# Altium footprint library resSmd.PcbLib: 25 footprints (part 2 of 2)
Each footprint in its own frame and in the unit in brackets; x right, y up, seen from the top. Pads: shape width x height; smd on the part's side, far side on the other; paste and mask are expansions set on the pad; w line width, h text height; cw(c..) or ccw(c..) is an arc to the next point about the centre after c.
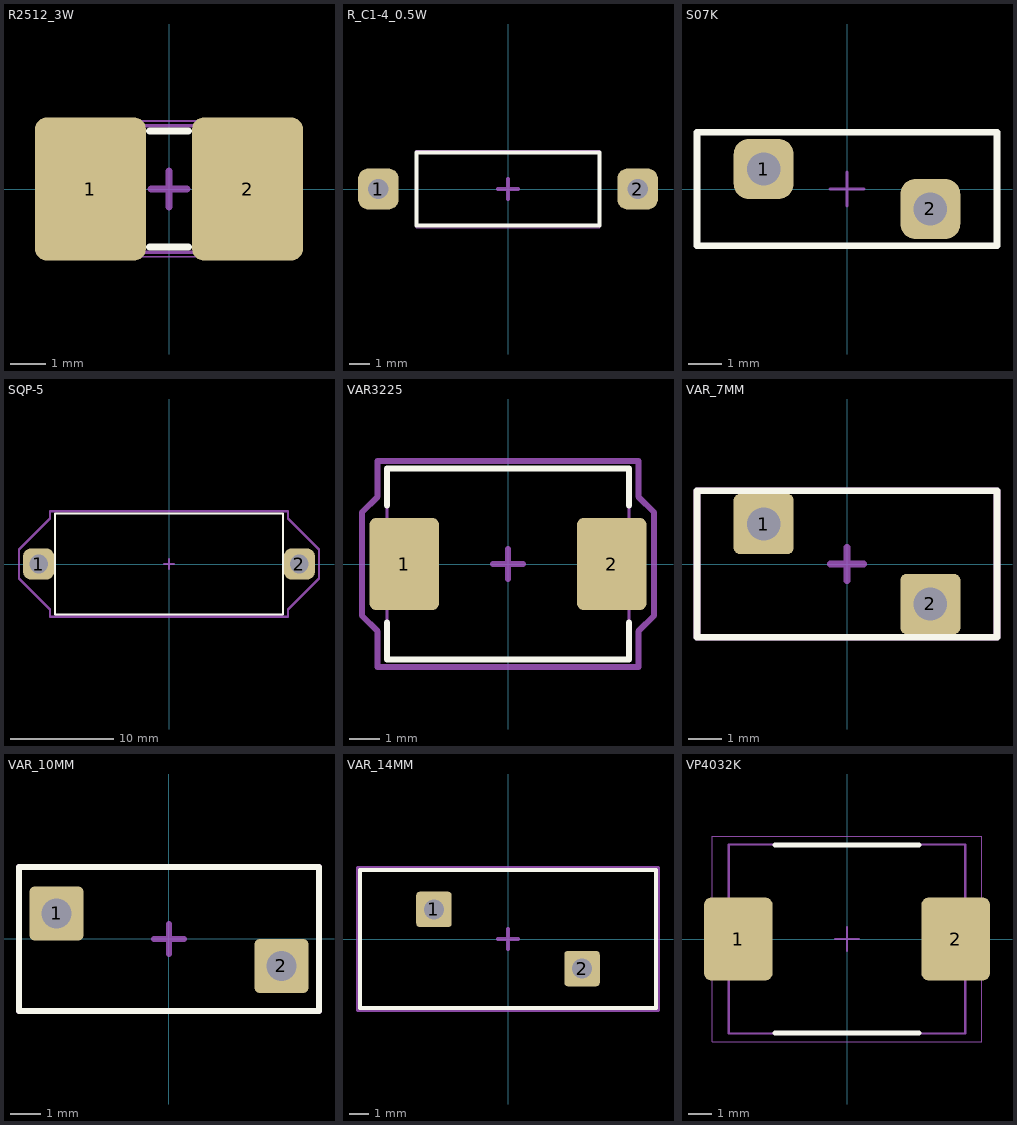
[diagram p1: the footprints below, top view; thin cyan lines are the x and y axes]

## R2512_3W [mm] "3W_IPC High Density"
height 0.9
pads (2):
  rrect20% 3.1x4 smd: 1(-2.2,0) 2(2.2,0)
Top Overlay:
  lines w0.2: -0.55,-1.625 0.55,-1.625 ; -0.55,1.625 0.55,1.625
M3_comm_top:
  text ".comment" at -0.9,-0.3 h1
M5_asm_top:
  text ".Designator" at -1,0.6 h1
M7_courtyard_top:
  lines w0.2: -0.5,0 0.5,0 ; 0,-0.5 0,0.5
Mechanical 13:
  lines w0.1: -3.325,-1.775 -3.325,1.775 3.325,1.775 3.325,-1.775 -3.325,-1.775
Mechanical 15:
  lines w0.05: -3.6,-1.9 -3.6,1.9 3.6,1.9 3.6,-1.9 -3.6,-1.9
  lines w0.1: -0.5,0 0.5,0 ; 0,-0.5 0,0.5
3D body "User Library-res2512_body.STEP": height 0.62, standoff 0, extent -3.159,-1.6 3.16,1.6

## R_C1-4_0.5W [mm] "0.5W"
height 0.9
pads (2):
  rrect50% 2x2 hole 1: 1(-6.37,0) 2(6.37,0)
Top Overlay:
  lines w0.2: -4.5,-1.8 -4.5,1.8 4.5,1.8 4.5,-1.8 -4.5,-1.8
M3_comm_top:
  text ".comment" at -0.9,-0.3 h1
M5_asm_top:
  text ".Designator" at -1,1.3 h1
M7_courtyard_top:
  lines w0.2: -0.5,0 0.5,0 ; 0,-0.5 0,0.5
Mechanical 13:
  lines w0.1: -4.5,-1.775 -4.5,1.775 4.5,1.775 4.5,-1.775 -4.5,-1.775
Mechanical 15:
  lines w0.05: -4.5,-1.9 -4.5,1.9 4.5,1.9 4.5,-1.9 -4.5,-1.9
  lines w0.1: -0.5,0 0.5,0 ; 0,-0.5 0,0.5
3D body "Res50-Axial 0_5W-330R.step": height 4.38, standoff -5, extent -6.725,-1.875 6.725,1.875

## S07K [mm] "0.5W"
height 0.9
pads (2):
  rrect50% 1.8x1.8 hole 1: 1(-2.5,0.6) 2(2.5,-0.6)
Top Overlay:
  lines w0.2: -4.5,-1.7 -4.5,1.7 4.5,1.7 4.5,-1.7 -4.5,-1.7
Mechanical 15:
  lines w0.1: -0.5,0 0.5,0 ; 0,-0.5 0,0.5
3D body "S07K_cut.stp": height 10.49, standoff -2.5, extent -4.495,-1.7 4.495,1.7

## SQP-5 [mm] "0.5W"
height 0.9
pads (2):
  rrect50% 3x3 hole 1.8: 1(-12.6,0) 2(12.6,0)
Top Overlay:
  lines w0.2: -11,-4.9 -11,4.9 11,4.9 11,-4.9 -11,-4.9
M3_comm_top:
  text ".comment" at -0.9,-0.3 h1
M5_asm_top:
  text ".Designator" at -1,1.3 h1
M7_courtyard_top:
  lines w0.2: -0.5,0 0.5,0 ; 0,-0.5 0,0.5 ; -14.5,-1.4 -11.5,-4.4 -11.5,-5.1 11.5,-5.1 11.5,-4.4 14.5,-1.4 14.5,1.4 11.5,4.4 11.5,5.1 -11.5,5.1 -11.5,4.4 -14.5,1.4 -14.5,-1.4
Mechanical 13:
  lines w0.1: -11,-4.9 -11,4.9 11,4.9 11,-4.9 -11,-4.9
3D body "SQP-5W.step": height 9.21, standoff -2.5, extent -13.2,-4.85 13.2,4.85

## VAR3225 [mm] "B72650M0251K072, 2-Leads, Body 8,00x6,30mm, IPC Medium Density"
height 4.5
pads (2):
  rrect20% 2.3x3.05 smd: 1(-3.425,0) 2(3.425,0)
Top Overlay:
  lines w0.2: -4,-1.925 -4,-3.15 4,-3.15 4,-1.925 ; -4,1.925 -4,3.15 4,3.15 4,1.925
M3_comm_top:
  text ".comment" at -0.9,-0.3 h1
M5_asm_top:
  lines w0.1: -0.5,0 0.5,0 ; 0,-0.5 0,0.5 ; -4,-3.15 -4,3.15 4,3.15 4,-3.15 -4,-3.15
  text ".Designator" at -1,1.3 h1
M7_courtyard_top:
  lines w0.2: -0.5,0 0.5,0 ; 0,-0.5 0,0.5 ; -4.825,-1.7 -4.3,-2.225 -4.3,-3.4 4.3,-3.4 4.3,-2.225 4.825,-1.7 4.825,1.7 4.3,2.225 4.3,3.4 -4.3,3.4 -4.3,2.225 -4.825,1.7 -4.825,-1.7
3D body "CAPM8063X45N.step": height 4.5, standoff 0, extent -4.22,-3.15 4.22,3.15

## VAR_7MM [mm] "JVR-07N241K (S07K150)"
height 0.9
pads (2):
  rrect20% 1.8x1.8 hole 1: 1(-2.5,1.2) 2(2.5,-1.2)
Top Overlay:
  lines w0.2: -4.5,-2.2 -4.5,2.2 4.5,2.2 4.5,-2.2 -4.5,-2.2
M3_comm_top:
  text ".comment" at -0.9,-0.3 h1
M5_asm_top:
  lines w0.2: -4.5,-2.2 4.5,-2.2 4.5,2.2 -4.5,2.2 -4.5,-2.2
  text ".Designator" at -1,1.3 h1
M7_courtyard_top:
  lines w0.2: -0.5,0 0.5,0 ; 0,-0.5 0,0.5 ; -4.5,-2.2 4.5,-2.2 4.5,2.2 -4.5,2.2 -4.5,-2.2
3D body: height 6, standoff -2, extent 2.103,-1.599 2.9,-0.801
3D body: height 6, standoff -2, extent -2.897,0.801 -2.1,1.599
3D body: height 10.5, standoff 1.5, extent -4.5,-2.2 4.5,2.2

## VAR_10MM [mm] "B72210-S 251-K101"
height 0.9
pads (2):
  rrect20% 1.8x1.8 hole 1: 1(-3.75,0.85) 2(3.75,-0.9)
Top Overlay:
  lines w0.2: -5,-2.4 5,-2.4 5,2.4 -5,2.4 -5,-2.4
M3_comm_top:
  text ".comment" at -0.9,-0.3 h1
M5_asm_top:
  lines w0.2: -5,-2.4 -5,2.4 5,2.4 5,-2.4 -5,-2.4
  text ".Designator" at -1,1.3 h1
M7_courtyard_top:
  lines w0.2: -0.5,0 0.5,0 ; 0,-0.5 0,0.5 ; -5,-2.4 -5,2.4 5,2.4 5,-2.4 -5,-2.4
3D body: height 6, standoff -2, extent 3.353,-1.299 4.15,-0.501
3D body: height 8, standoff 0, extent 3.353,-1.299 4.15,-0.501
3D body: height 6, standoff -2, extent -4.147,0.451 -3.35,1.249
3D body: height 11, standoff 1, extent -5,-2.4 5,2.4

## VAR_14MM [mm] "V250LA20CP"
height 0.9
pads (2):
  rrect20% 1.8x1.8 hole 1: 1(-3.75,1.5) 2(3.75,-1.5)
Top Overlay:
  lines w0.2: -7.5,-3.5 -7.5,3.5 7.5,3.5 7.5,-3.5 -7.5,-3.5
M3_comm_top:
  text ".comment" at -0.9,-0.3 h1
M5_asm_top:
  lines w0.2: -7.5,-3.5 7.5,-3.5 7.5,3.5 -7.5,3.5 -7.5,-3.5
  text ".Designator" at -1,1.3 h1
M7_courtyard_top:
  lines w0.2: -0.5,0 0.5,0 ; 0,-0.5 0,0.5 ; -7.6,-3.6 7.6,-3.6 7.6,3.6 -7.6,3.6 -7.6,-3.6
3D body: height 15.3, standoff 0.3, extent -7.5,-3.5 7.5,3.5
3D body: height 6, standoff -2, extent -4.147,1.101 -3.35,1.899
3D body: height 8, standoff 0, extent 3.353,-1.899 4.15,-1.101
3D body: height 6, standoff -2, extent 3.353,-1.899 4.15,-1.101

## VP4032K [mm] "VP4032K122R250"
height 4.7
pads (2):
  rrect20% 2.9x3.5 smd: 1(-4.6,0) 2(4.6,0)
Top Overlay:
  lines w0.2: -3.05,-3.975 3.05,-3.975 ; -3.05,3.975 3.05,3.975
M5_asm_top:
  lines w0.1: -5,-4 5,-4 5,4 -5,4 -5,-4
M7_courtyard_top:
  lines w0.05: -5.7,-4.35 5.7,-4.35 5.7,4.35 -5.7,4.35 -5.7,-4.35
  lines w0.1: -0.5,0 0.5,0 ; 0,-0.5 0,0.5
3D body "VP4032K122R250.step": height 5.05, standoff 0.05, extent -5.56,-4.2 5.56,4.2